# Altium schematic symbol library Andon Electronics.SchLib: 3 symbols
Pins are listed as number, name and electrical type; pins without a type are passive.

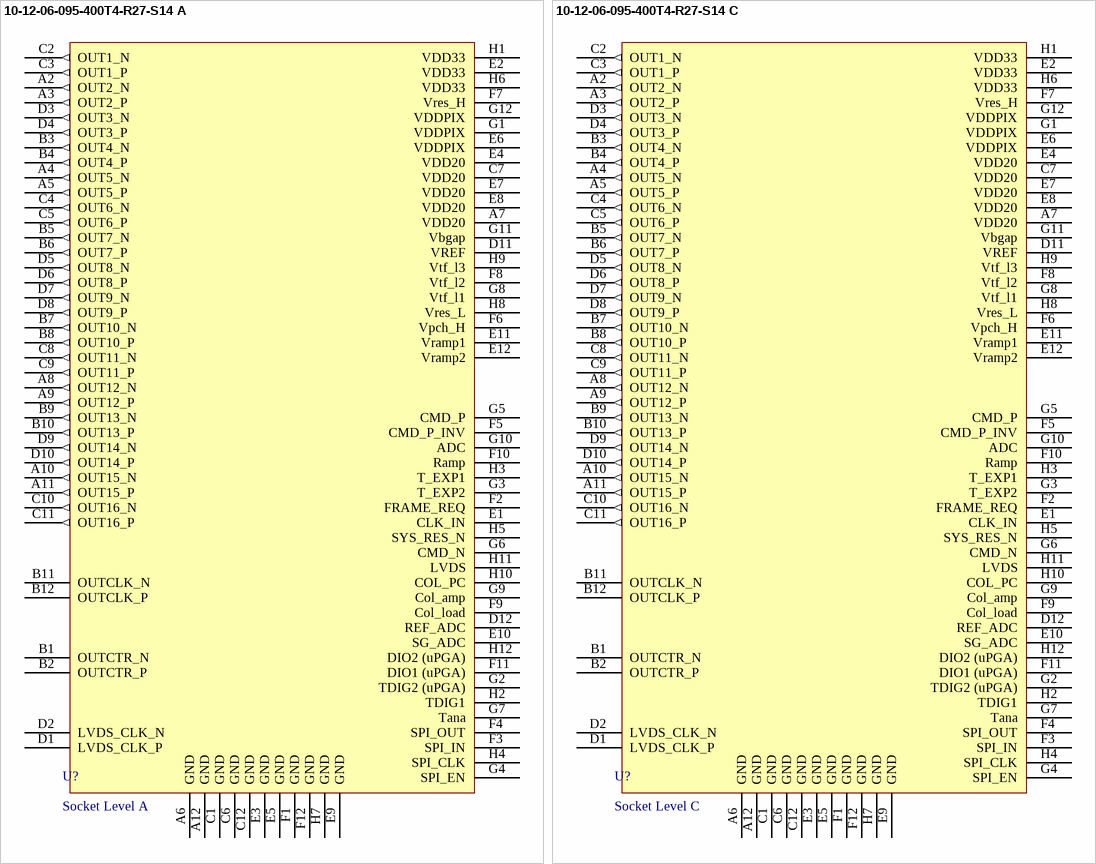
[diagram p0: symbols 10-12-06-095-400T4-R27-S14 A to 10-12-06-095-400T4-R27-S14 C]

## 10-12-06-095-400T4-R27-S14 A
designator U?, comment Socket Level A
pins: A2 OUT2_N (out), A3 OUT2_P (out), A4 OUT5_N (out), A5 OUT5_P (out), A6 GND, A7 VDD20, A8 OUT12_N (out), A9 OUT12_P (out), A10 OUT15_N (out), A11 OUT15_P (out), A12 GND, B1 OUTCTR_N, B2 OUTCTR_P, B3 OUT4_N (out), B4 OUT4_P (out), B5 OUT7_N (out), B6 OUT7_P (out), B7 OUT10_N (out), B8 OUT10_P (out), B9 OUT13_N (out), B10 OUT13_P (out), B11 OUTCLK_N, B12 OUTCLK_P, C1 GND, C2 OUT1_N (out), C3 OUT1_P (out), C4 OUT6_N (out), C5 OUT6_P (out), C6 GND, C7 VDD20, C8 OUT11_N (out), C9 OUT11_P (out), C10 OUT16_N (out), C11 OUT16_P (out), C12 GND, D1 LVDS_CLK_P, D2 LVDS_CLK_N, D3 OUT3_N (out), D4 OUT3_P (out), D5 OUT8_N (out), D6 OUT8_P (out), D7 OUT9_N (out), D8 OUT9_P (out), D9 OUT14_N (out), D10 OUT14_P (out), D11 VREF, D12 REF_ADC, E1 CLK_IN, E2 VDD33, E3 GND, E4 VDD20, E5 GND, E6 VDDPIX, E7 VDD20, E8 VDD20, E9 GND, E10 SG_ADC, E11 Vramp1, E12 Vramp2, F1 GND, F2 FRAME_REQ, F3 SPI_IN, F4 SPI_OUT, F5 CMD_P_INV, F6 Vpch_H, F7 Vres_H, F8 Vtf_l2, F9 Col_load, F10 Ramp, F11 DIO1 (uPGA), F12 GND, G1 VDDPIX, G2 TDIG2 (uPGA), G3 T_EXP2, G4 SPI_EN, G5 CMD_P, G6 CMD_N, G7 Tana, G8 Vtf_l1, G9 Col_amp, G10 ADC, G11 Vbgap, G12 VDDPIX, H1 VDD33, H2 TDIG1, H3 T_EXP1, H4 SPI_CLK, H5 SYS_RES_N, H6 VDD33, H7 GND, H8 Vres_L, H9 Vtf_l3, H10 COL_PC, H11 LVDS, H12 DIO2 (uPGA)

## 10-12-06-095-400T4-R27-S14 C
designator U?, comment Socket Level C
pins: A2 OUT2_N (out), A3 OUT2_P (out), A4 OUT5_N (out), A5 OUT5_P (out), A6 GND, A7 VDD20, A8 OUT12_N (out), A9 OUT12_P (out), A10 OUT15_N (out), A11 OUT15_P (out), A12 GND, B1 OUTCTR_N, B2 OUTCTR_P, B3 OUT4_N (out), B4 OUT4_P (out), B5 OUT7_N (out), B6 OUT7_P (out), B7 OUT10_N (out), B8 OUT10_P (out), B9 OUT13_N (out), B10 OUT13_P (out), B11 OUTCLK_N, B12 OUTCLK_P, C1 GND, C2 OUT1_N (out), C3 OUT1_P (out), C4 OUT6_N (out), C5 OUT6_P (out), C6 GND, C7 VDD20, C8 OUT11_N (out), C9 OUT11_P (out), C10 OUT16_N (out), C11 OUT16_P (out), C12 GND, D1 LVDS_CLK_P, D2 LVDS_CLK_N, D3 OUT3_N (out), D4 OUT3_P (out), D5 OUT8_N (out), D6 OUT8_P (out), D7 OUT9_N (out), D8 OUT9_P (out), D9 OUT14_N (out), D10 OUT14_P (out), D11 VREF, D12 REF_ADC, E1 CLK_IN, E2 VDD33, E3 GND, E4 VDD20, E5 GND, E6 VDDPIX, E7 VDD20, E8 VDD20, E9 GND, E10 SG_ADC, E11 Vramp1, E12 Vramp2, F1 GND, F2 FRAME_REQ, F3 SPI_IN, F4 SPI_OUT, F5 CMD_P_INV, F6 Vpch_H, F7 Vres_H, F8 Vtf_l2, F9 Col_load, F10 Ramp, F11 DIO1 (uPGA), F12 GND, G1 VDDPIX, G2 TDIG2 (uPGA), G3 T_EXP2, G4 SPI_EN, G5 CMD_P, G6 CMD_N, G7 Tana, G8 Vtf_l1, G9 Col_amp, G10 ADC, G11 Vbgap, G12 VDDPIX, H1 VDD33, H2 TDIG1, H3 T_EXP1, H4 SPI_CLK, H5 SYS_RES_N, H6 VDD33, H7 GND, H8 Vres_L, H9 Vtf_l3, H10 COL_PC, H11 LVDS, H12 DIO2 (uPGA)

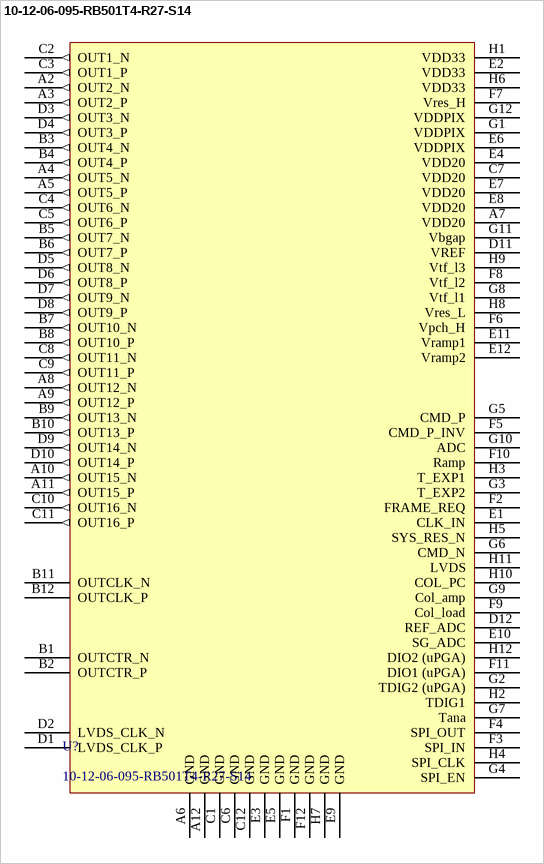
[diagram p1: symbol 10-12-06-095-RB501T4-R27-S14]

## 10-12-06-095-RB501T4-R27-S14
designator U?
pins: A2 OUT2_N (out), A3 OUT2_P (out), A4 OUT5_N (out), A5 OUT5_P (out), A6 GND, A7 VDD20, A8 OUT12_N (out), A9 OUT12_P (out), A10 OUT15_N (out), A11 OUT15_P (out), A12 GND, B1 OUTCTR_N, B2 OUTCTR_P, B3 OUT4_N (out), B4 OUT4_P (out), B5 OUT7_N (out), B6 OUT7_P (out), B7 OUT10_N (out), B8 OUT10_P (out), B9 OUT13_N (out), B10 OUT13_P (out), B11 OUTCLK_N, B12 OUTCLK_P, C1 GND, C2 OUT1_N (out), C3 OUT1_P (out), C4 OUT6_N (out), C5 OUT6_P (out), C6 GND, C7 VDD20, C8 OUT11_N (out), C9 OUT11_P (out), C10 OUT16_N (out), C11 OUT16_P (out), C12 GND, D1 LVDS_CLK_P, D2 LVDS_CLK_N, D3 OUT3_N (out), D4 OUT3_P (out), D5 OUT8_N (out), D6 OUT8_P (out), D7 OUT9_N (out), D8 OUT9_P (out), D9 OUT14_N (out), D10 OUT14_P (out), D11 VREF, D12 REF_ADC, E1 CLK_IN, E2 VDD33, E3 GND, E4 VDD20, E5 GND, E6 VDDPIX, E7 VDD20, E8 VDD20, E9 GND, E10 SG_ADC, E11 Vramp1, E12 Vramp2, F1 GND, F2 FRAME_REQ, F3 SPI_IN, F4 SPI_OUT, F5 CMD_P_INV, F6 Vpch_H, F7 Vres_H, F8 Vtf_l2, F9 Col_load, F10 Ramp, F11 DIO1 (uPGA), F12 GND, G1 VDDPIX, G2 TDIG2 (uPGA), G3 T_EXP2, G4 SPI_EN, G5 CMD_P, G6 CMD_N, G7 Tana, G8 Vtf_l1, G9 Col_amp, G10 ADC, G11 Vbgap, G12 VDDPIX, H1 VDD33, H2 TDIG1, H3 T_EXP1, H4 SPI_CLK, H5 SYS_RES_N, H6 VDD33, H7 GND, H8 Vres_L, H9 Vtf_l3, H10 COL_PC, H11 LVDS, H12 DIO2 (uPGA)